# EAGLE library part TPS3613 (library Simplex-ICs)
Texas Instruments TPS3613 Adjustable battery-backup supervisor for RAM retension
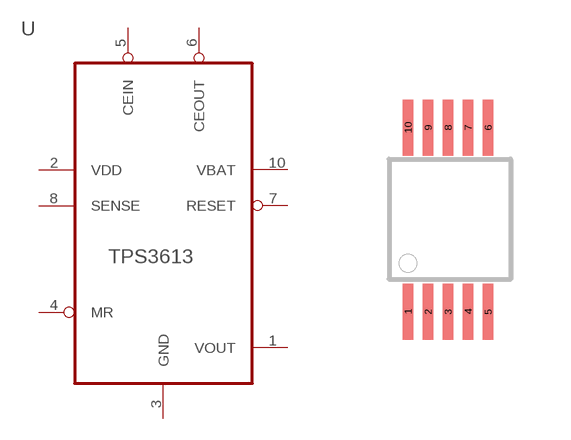
[diagram p2: symbol with the pads of MSOP_10P; footprint MSOP_10P]

Designator prefix -

## TPS3613  [MSOP_10P]
1  VOUT  sup
2  VDD  pwr
3  GND  pas
4  MR  in
5  CEIN  in
6  CEOUT  out
7  RESET  out
8  SENSE  in
10  VBAT  pwr

## Footprint MSOP_10P (pad centres in mm)
smd 0.27 x 1.4: 1 0,0; 2 0.5,0; 3 1,0; 4 1.5,0; 5 2,0; 6 2,4.6; 7 1.5,4.6; 8 1,4.6; 9 0.5,4.6; 10 0,4.6